# Altium integrated library SJ-63073E.IntLib: 1 symbol
Pins are listed as number, name and electrical type; pins without a type are passive.

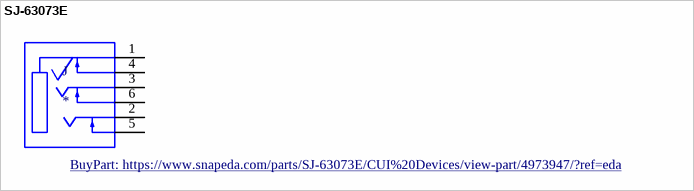
[diagram p0: symbol SJ-63073E]

## SJ-63073E
designator J
6.35 mm, Mono and Stereo, Right Angle, Through Hole, 2~3 Conductors, 2~3 Internal Switches, Audio Jack Connector; MP: SJ-63073E; MF: CUI Devices; Availability: Warning; Value: *; CUI_purchase_URL: https://www.cuidevices.com/product/interconnect/connectors/audio-connectors/jacks/sj-6307-series?utm_source=snapeda.com&utm_medium=referral&utm_campaign=snapedaBOM; Package: Package; Price: None; SnapEDA_Link: https://www.snapeda.com/parts/SJ-63073E/CUI%20Devices/view-part/4973947/?ref=snap; Mouser-Purchase-URL: https://snapeda.com/shop?store=Mouser&id=4973947; BuyPart: https://www.snapeda.com/parts/SJ-63073E/CUI%20Devices/view-part/4973947/?ref=eda
footprint CUI_SJ-63073E
pins: 1 SLEEVE, 2 TIP, 3 RING, 4 SLEEVE_SWITCH, 5 TIP_SWITCH, 6 RING_SWITCH